# EAGLE library part CWF-9 (library gost_con_wf)
Разъем CWF шаг 2.50 mm
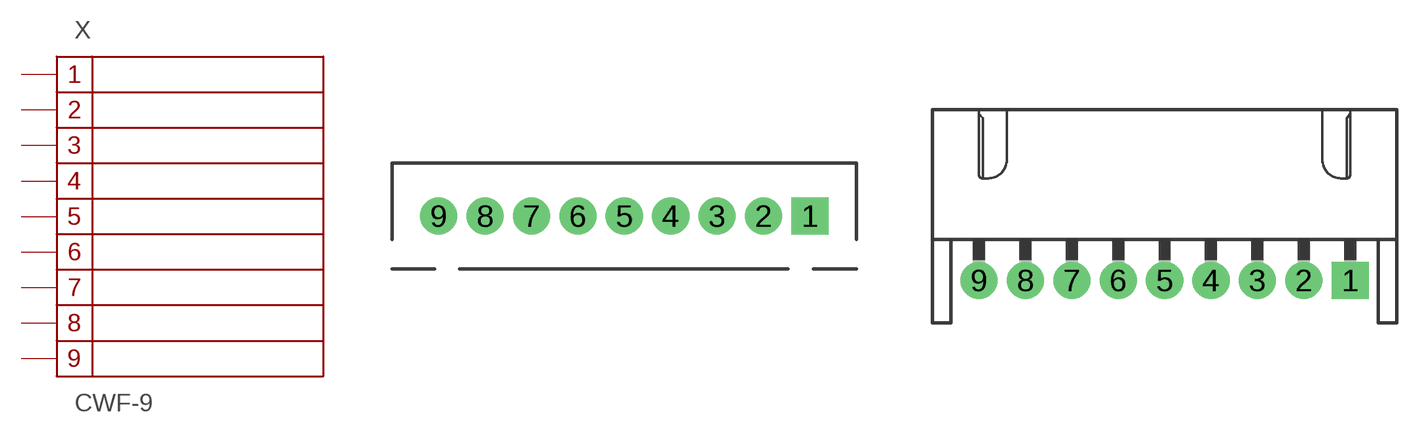
[diagram p3: symbol with the pads of CWF-9; footprints CWF-9, CWF-9R]

Designator prefix X

## CWF-9  [CWF-9]
1  1
2  2
3  3
4  4
5  5
6  6
7  7
8  8
9  9

## CWF-9R  [CWF-9R]
Pads as for CWF-9

## Footprint CWF-9 (pad centres in mm)
Разъем CWF-9 2.50mm
drill 1 pad 2 square: 1 10,0
drill 1 pad 2: 2 7.5,0; 3 5,0; 4 2.5,0; 5 0,0; 6 -2.5,0; 7 -5,0; 8 -7.5,0; 9 -10,0

## Footprint CWF-9R (pad centres in mm)
Разъем CWF-9R 2.50mm h=9.2mm
drill 1 pad 2 square: 1 10,0
drill 1 pad 2: 2 7.5,0; 3 5,0; 4 2.5,0; 5 0,0; 6 -2.5,0; 7 -5,0; 8 -7.5,0; 9 -10,0